# Altium footprint library Module.PcbLib: 47 footprints (part 3 of 4)
Each footprint in its own frame and in the unit in brackets; x right, y up, seen from the top. Pads: shape width x height; smd on the part's side, far side on the other; paste and mask are expansions set on the pad; w line width, h text height; cw(c..) or ccw(c..) is an arc to the next point about the centre after c.
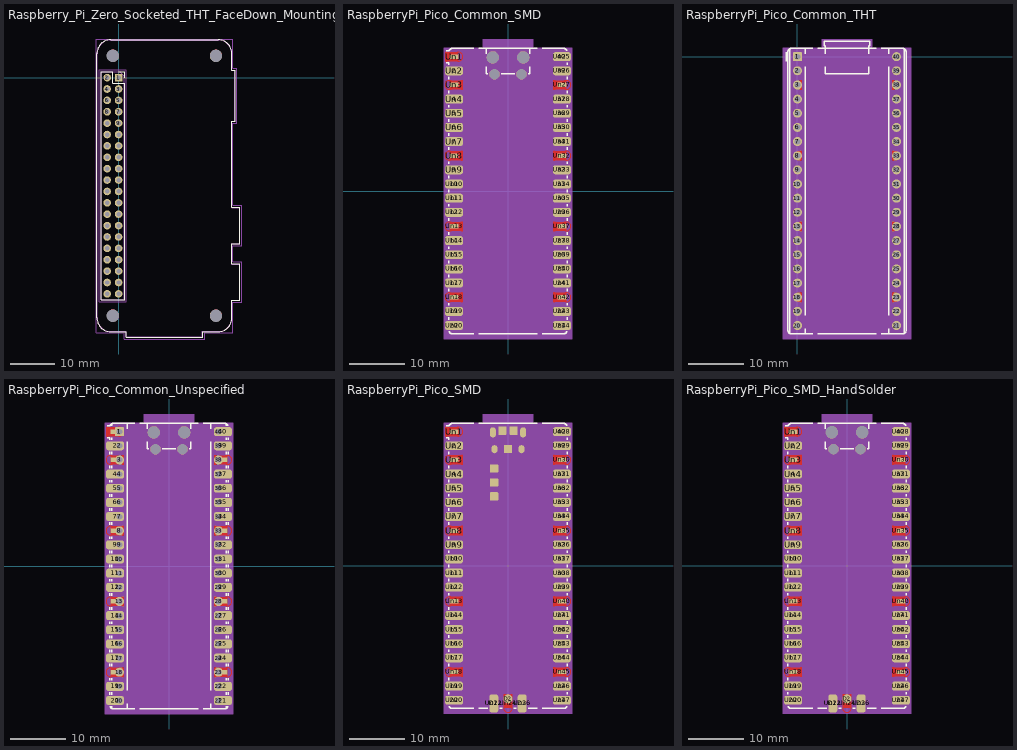
[diagram p2: the footprints below, top view; thin cyan lines are the x and y axes]

## Raspberry_Pi_Zero_Socketed_THT_FaceDown_MountingHoles [mm]
pads (44):
  rect 1.7x1.7 hole 1: 1(0,0)
  rrect100% 1.7x1.7 hole 1: 2(-2.54,0) 3(0,-2.54) 4(-2.54,-2.54) 5(0,-5.08) 6(-2.54,-5.08) 7(0,-7.62) 8(-2.54,-7.62) 9(0,-10.16) 10(-2.54,-10.16) 11(0,-12.7) 12(-2.54,-12.7) 13(0,-15.24) 14(-2.54,-15.24) 15(0,-17.78) 16(-2.54,-17.78) 17(0,-20.32) 18(-2.54,-20.32) 19(0,-22.86) 20(-2.54,-22.86) 21(0,-25.4) 22(-2.54,-25.4) 23(0,-27.94) 24(-2.54,-27.94) 25(0,-30.48) 26(-2.54,-30.48) 27(0,-33.02) 28(-2.54,-33.02) 29(0,-35.56) 30(-2.54,-35.56) 31(0,-38.1) 32(-2.54,-38.1) 33(0,-40.64) 34(-2.54,-40.64) 35(0,-43.18) 36(-2.54,-43.18) 37(0,-45.72) 38(-2.54,-45.72) 39(0,-48.26) 40(-2.54,-48.26)
  round 2.75 hole 2.75: Un1(-1.27,4.87) Un2(-1.27,-53.13) Un3(21.73,4.87) Un4(21.73,-53.13)
F.SilkS:
  lines w0.254: 0,1.33 1.33,1.33 1.33,0 ; -4.83,-53.63 ccw(c-1.77,-53.63) -1.77,-56.69 1.67,-56.69 1.67,-57.89 18.79,-57.89 18.79,-56.69 22.23,-56.69 ccw(c22.23,-53.63) 25.29,-53.63 25.29,-49.69 27.09,-49.69 27.09,-41.57 25.29,-41.57 25.29,-37.09 27.09,-37.09 27.09,-28.97 25.29,-28.97 25.29,-9.74 25.99,-9.74 25.99,1.68 25.29,1.68 25.29,5.37 ccw(c22.23,5.37) 22.23,8.43 -1.77,8.43 ccw(c-1.77,5.37) -4.83,5.37 -4.83,-53.63 ; -3.87,-49.59 1.33,-49.59 1.33,-1.27 -1.27,-1.27 -1.27,1.33 -3.87,1.33 -3.87,-49.59
Top Assembly:
  lines w0.254: -4.77,-53.63 ccw(c-1.77,-53.63) -1.77,-56.63 1.73,-56.63 1.73,-57.83 18.73,-57.83 18.73,-56.63 22.23,-56.63 ccw(c22.23,-53.63) 25.23,-53.63 25.23,-49.63 27.03,-49.63 27.03,-41.63 25.23,-41.63 25.23,-37.03 27.03,-37.03 27.03,-29.03 25.23,-29.03 25.23,-9.68 25.93,-9.68 25.93,1.62 25.23,1.62 25.23,5.37 ccw(c22.23,5.37) 22.23,8.37 -1.77,8.37 ccw(c-1.77,5.37) -4.77,5.37 -4.77,-53.63 ; -3.81,-49.53 1.27,-49.53 1.27,0.27 0.27,1.27 -3.81,1.27 -3.81,-49.53
  text "'.Designator'" at -0.43,-28.177 h1
Top Courtyard:
  lines w0.254: -5.02,-56.88 1.23,-56.88 1.23,-58.33 19.23,-58.33 19.23,-56.88 25.48,-56.88 25.48,-50.13 27.53,-50.13 27.53,-41.13 25.48,-41.13 25.48,-37.53 27.53,-37.53 27.53,-28.53 25.48,-28.53 25.48,-10.18 26.43,-10.18 26.43,2.12 25.48,2.12 25.48,8.62 -5.02,8.62 -5.02,-56.88 ; -4.34,-50 1.76,-50 1.76,1.8 -4.34,1.8 -4.34,-50
Top Designator:
  text ".Designator" at 3.637,-25.363 h1.52

## RaspberryPi_Pico_Common_SMD [mm]
pads (84):
  rect 1.6x0.8 smd: 1(-9.69,24.13) 3(-9.69,19.05) 8(-9.69,6.35) 13(-9.69,-6.35) 18(-9.69,-19.05) 23(9.69,-19.05) 28(9.69,-6.35) 33(9.69,6.35) 38(9.69,19.05)
  rrect50% 3.2x1.6 smd: 2(-9.69,21.59) 4(-9.69,16.51) 5(-9.69,13.97) 6(-9.69,11.43) 7(-9.69,8.89) 9(-9.69,3.81) 10(-9.69,1.27) 11(-9.69,-1.27) 12(-9.69,-3.81) 14(-9.69,-8.89) 15(-9.69,-11.43) 16(-9.69,-13.97) 17(-9.69,-16.51) 19(-9.69,-21.59) 20(-9.69,-24.13) 21(9.69,-24.13) 22(9.69,-21.59) 24(9.69,-16.51) 25(9.69,-13.97) 26(9.69,-11.43) 27(9.69,-8.89) 29(9.69,-3.81) 30(9.69,-1.27) 31(9.69,1.27) 32(9.69,3.81) 34(9.69,8.89) 35(9.69,11.43) 36(9.69,13.97) 37(9.69,16.51) 39(9.69,21.59) 40(9.69,24.13)
  rect 3.8x2.2 on Top Paste: Un1(-9.69,24.13) Un2(-9.69,21.59) Un3(-9.69,19.05) Un4(-9.69,16.51) Un5(-9.69,13.97) Un6(-9.69,11.43) Un7(-9.69,8.89) Un8(-9.69,6.35) Un9(-9.69,3.81) Un10(-9.69,1.27) Un11(-9.69,-1.27) Un12(-9.69,-3.81) Un13(-9.69,-6.35) Un14(-9.69,-8.89) Un15(-9.69,-11.43) Un16(-9.69,-13.97) Un17(-9.69,-16.51) Un18(-9.69,-19.05) Un19(-9.69,-21.59) Un20(-9.69,-24.13) Un25(9.69,24.13) Un26(9.69,21.59) Un27(9.69,19.05) Un28(9.69,16.51) Un29(9.69,13.97) Un30(9.69,11.43) Un31(9.69,8.89) Un32(9.69,6.35) Un33(9.69,3.81) Un34(9.69,1.27) Un35(9.69,-1.27) Un36(9.69,-3.81) Un37(9.69,-6.35) Un38(9.69,-8.89) Un39(9.69,-11.43) Un40(9.69,-13.97) Un41(9.69,-16.51) Un42(9.69,-19.05) Un43(9.69,-21.59) Un44(9.69,-24.13)
  round 2.2 hole 2.2: Un21(-2.725,24) Un24(2.725,24)
  round 1.85 hole 1.85: Un22(-2.425,20.97) Un23(2.425,20.97)
F.Cu:
  circle w0: c8.29,18.45 r0.2
  circle w0: c8.29,19.65 r0.2
  circle w0: c10.49,19.05 r0.8
  circle w0: c8.29,5.75 r0.2
  circle w0: c8.29,6.95 r0.2
  circle w0: c10.49,6.35 r0.8
  circle w0: c8.29,-6.95 r0.2
  circle w0: c8.29,-5.75 r0.2
  circle w0: c10.49,-6.35 r0.8
  circle w0: c8.29,-19.65 r0.2
  circle w0: c8.29,-18.45 r0.2
  circle w0: c10.49,-19.05 r0.8
  circle w0: c-8.29,-19.65 r0.2
  circle w0: c-8.29,-18.45 r0.2
  circle w0: c-10.49,-19.05 r0.8
  circle w0: c-8.29,-6.95 r0.2
  circle w0: c-8.29,-5.75 r0.2
  circle w0: c-10.49,-6.35 r0.8
  circle w0: c-8.29,5.75 r0.2
  circle w0: c-8.29,6.95 r0.2
  circle w0: c-10.49,6.35 r0.8
  circle w0: c-8.29,18.45 r0.2
  circle w0: c-8.29,19.65 r0.2
  circle w0: c-10.49,19.05 r0.8
  circle w0: c-11.09,23.53 r0.2
  circle w0: c-11.09,24.73 r0.2
  circle w0: c-8.89,24.13 r0.8
  region: 10.49,18.25 8.29,18.25 8.09,18.45 8.09,19.65 8.29,19.85 10.49,19.85
  region: 10.49,5.55 8.29,5.55 8.09,5.75 8.09,6.95 8.29,7.15 10.49,7.15
  region: 10.49,-7.15 8.29,-7.15 8.09,-6.95 8.09,-5.75 8.29,-5.55 10.49,-5.55
  region: 10.49,-19.85 8.29,-19.85 8.09,-19.65 8.09,-18.45 8.29,-18.25 10.49,-18.25
  region: -8.09,-18.45 -8.09,-19.65 -8.29,-19.85 -10.49,-19.85 -10.49,-18.25 -8.29,-18.25
  region: -8.09,-5.75 -8.09,-6.95 -8.29,-7.15 -10.49,-7.15 -10.49,-5.55 -8.29,-5.55
  region: -8.09,6.95 -8.09,5.75 -8.29,5.55 -10.49,5.55 -10.49,7.15 -8.29,7.15
  region: -8.09,19.65 -8.09,18.45 -8.29,18.25 -10.49,18.25 -10.49,19.85 -8.29,19.85
  region: -8.89,23.33 -11.09,23.33 -11.29,23.53 -11.29,24.73 -11.09,24.93 -8.89,24.93
F.SilkS:
  lines w0.254: -11.09,23.07 -10.61,23.07 -10.61,22.65 ; -11.09,25.19 -10.58,25.19 cw(c-10,25) -10,25.61 -7.51,25.61 -6.162,25.61 ; -10.61,-23.07 -10.61,-22.65 ; -10.61,-20.53 -10.61,-20.11 ; -10.61,-17.99 -10.61,-17.57 ; -10.61,-15.45 -10.61,-15.03 ; -10.61,-12.91 -10.61,-12.49 ; -10.61,-10.37 -10.61,-9.95 ; -10.61,-7.83 -10.61,-7.41 ; -10.61,-5.29 -10.61,-4.87 ; -10.61,-2.75 -10.61,-2.33 ; -10.61,-0.21 -10.61,0.21 ; -10.61,2.33 -10.61,2.75 ; -10.61,4.87 -10.61,5.29 ; -10.61,7.41 -10.61,7.83 ; -10.61,9.95 -10.61,10.37 ; -10.61,12.49 -10.61,12.91 ; -10.61,15.03 -10.61,15.45 ; -10.61,17.57 -10.61,17.99 ; -10.61,20.11 -10.61,20.53 ; -10.58,-25.19 ccw(c-10,-25) -10,-25.61 -6.162,-25.61 ; -5.238,-25.61 -3.6,-25.61 3.6,-25.61 5.238,-25.61 ; -5.238,25.61 -4.235,25.61 4.235,25.61 5.238,25.61 ; -3.9,22.306 -3.9,21.09 -3.604,21.09 ; -3.9,24.694 -3.9,25.61 ; -1.246,21.09 1.246,21.09 ; 3.604,21.09 3.9,21.09 3.9,22.306 ; 3.9,24.694 3.9,25.61 ; 6.162,-25.61 10,-25.61 ccw(c10,-25) 10.58,-25.19 ; 6.162,25.61 7.51,25.61 10,25.61 cw(c10,25) 10.58,25.19 ; 10.61,-23.07 10.61,-22.65 ; 10.61,-20.53 10.61,-20.11 ; 10.61,-17.99 10.61,-17.57 ; 10.61,-15.45 10.61,-15.03 ; 10.61,-12.91 10.61,-12.49 ; 10.61,-10.37 10.61,-9.95 ; 10.61,-7.83 10.61,-7.41 ; 10.61,-5.29 10.61,-4.87 ; 10.61,-2.75 10.61,-2.33 ; 10.61,-0.21 10.61,0.21 ; 10.61,2.33 10.61,2.75 ; 10.61,4.87 10.61,5.29 ; 10.61,7.41 10.61,7.83 ; 10.61,9.95 10.61,10.37 ; 10.61,12.49 10.61,12.91 ; 10.61,15.03 10.61,15.45 ; 10.61,17.57 10.61,17.99 ; 10.61,20.11 10.61,20.53 ; 10.61,22.65 10.61,23.07
F.Mask:
  circle w0: c8.29,18.45 r0.2
  circle w0: c8.29,19.65 r0.2
  circle w0: c10.49,19.05 r0.8
  circle w0: c8.29,5.75 r0.2
  circle w0: c8.29,6.95 r0.2
  circle w0: c10.49,6.35 r0.8
  circle w0: c8.29,-6.95 r0.2
  circle w0: c8.29,-5.75 r0.2
  circle w0: c10.49,-6.35 r0.8
  circle w0: c8.29,-19.65 r0.2
  circle w0: c8.29,-18.45 r0.2
  circle w0: c10.49,-19.05 r0.8
  circle w0: c-8.29,-19.65 r0.2
  circle w0: c-8.29,-18.45 r0.2
  circle w0: c-10.49,-19.05 r0.8
  circle w0: c-8.29,-6.95 r0.2
  circle w0: c-8.29,-5.75 r0.2
  circle w0: c-10.49,-6.35 r0.8
  circle w0: c-8.29,5.75 r0.2
  circle w0: c-8.29,6.95 r0.2
  circle w0: c-10.49,6.35 r0.8
  circle w0: c-8.29,18.45 r0.2
  circle w0: c-8.29,19.65 r0.2
  circle w0: c-10.49,19.05 r0.8
  circle w0: c-11.09,23.53 r0.2
  circle w0: c-11.09,24.73 r0.2
  circle w0: c-8.89,24.13 r0.8
  region: 10.49,18.25 8.29,18.25 8.09,18.45 8.09,19.65 8.29,19.85 10.49,19.85
  region: 10.49,5.55 8.29,5.55 8.09,5.75 8.09,6.95 8.29,7.15 10.49,7.15
  region: 10.49,-7.15 8.29,-7.15 8.09,-6.95 8.09,-5.75 8.29,-5.55 10.49,-5.55
  region: 10.49,-19.85 8.29,-19.85 8.09,-19.65 8.09,-18.45 8.29,-18.25 10.49,-18.25
  region: -8.09,-18.45 -8.09,-19.65 -8.29,-19.85 -10.49,-19.85 -10.49,-18.25 -8.29,-18.25
  region: -8.09,-5.75 -8.09,-6.95 -8.29,-7.15 -10.49,-7.15 -10.49,-5.55 -8.29,-5.55
  region: -8.09,6.95 -8.09,5.75 -8.29,5.55 -10.49,5.55 -10.49,7.15 -8.29,7.15
  region: -8.09,19.65 -8.09,18.45 -8.29,18.25 -10.49,18.25 -10.49,19.85 -8.29,19.85
  region: -8.89,23.33 -11.09,23.33 -11.29,23.53 -11.29,24.73 -11.09,24.93 -8.89,24.93
Top Assembly:
  region: 4,26.2 3.79,26.2 3.79,21.2 -3.79,21.2 -3.79,26.2 -4,26.2 -4,26.8 4,26.8
  lines w0.254: -10.5,-25 ccw(c-10,-25) -10,-25.5 10,-25.5 ccw(c10,-25) 10.5,-25 10.5,25 ccw(c10,25) 10,25.5 -9.5,25.5 -10.5,24.5 -10.5,-25 ; -6.5,20.3 -4.9,20.3 -4.9,21.1 -6.5,21.1 -6.5,20.3 ; -6.2,20.3 -5.2,20.3 -5.2,21.1 -6.2,21.1 -6.2,20.3 ; -5.1,11.375 -1.9,11.375 -1.9,15.625 -5.1,15.625 -5.1,11.375 ; -4.625,12.925 ccw(c-3.5,12.925) -2.375,12.925 -2.375,14.075 ccw(c-3.5,14.075) -4.625,14.075 -4.625,12.925
  text "'.Designator'" at 0.84,-4.047 h1
Top Courtyard:
  region: 4.5,25.75 11.54,25.75 11.54,-26.55 -11.54,-26.55 -11.54,25.75 -4.5,25.75 -4.5,27.3 4.5,27.3
Top Designator:
  text ".Designator" at -7.618,5.835 h1.52
Dwgs.User:
  circle w0.254: c5.7,-23.5 r1.05
  circle w0.254: c5.7,23.5 r1.05
  circle w0.254: c-5.7,-23.5 r1.05
  circle w0.254: c-5.7,23.5 r1.05
  region: 10.5,0.47 2.12,0.47 1.9,0.7 1.9,1.6 2.37,2.07 5.65,2.07 5.9,2.3 5.9,3.2 5.2,3.9 4.55,3.9 4.3,4.15 4.3,11.05 4.85,11.6 7.15,11.6 7.78,12.23 10.5,12.23
Cmts.User:
  text "Exposed" at -0.922,24.345 h0.33
  text "Copper" at -0.812,23.71 h0.33
  text "Exposed Copper Keep Out" at 0.087,-5.972 h0.33
  text "Out" at -0.41,20.466 h0.33
  text "Keep" at 0.445,4.728 h0.33
  text "AGND Plane" at 5.405,5.582 h0.5
  text "Keep" at -0.555,21.045 h0.33
  text "Copper" at 0.188,5.363 h0.33
  text "Exposed Copper Keep Out" at -2.228,11.213 h0.33
  text "Keep Out" at -3.247,35.378 h1
  text "Exposed Copper Keep Out" at -3.037,-25.037 h0.33
  text "Out" at 0.59,4.148 h0.33
  text "Possible Antenna" at -5.83,-20.359 h1
  text "USB Cable" at -3.604,38.085 h1
  text "Keep Out" at -3.247,-22.407 h1

## RaspberryPi_Pico_Common_THT [mm]
pads (40):
  rrect12% 1.6x1.6 hole 1: 1(0,0)
  round 1.6 hole 1: 2(0,-2.54) 3(0,-5.08) 4(0,-7.62) 5(0,-10.16) 6(0,-12.7) 7(0,-15.24) 8(0,-17.78) 9(0,-20.32) 10(0,-22.86) 11(0,-25.4) 12(0,-27.94) 13(0,-30.48) 14(0,-33.02) 15(0,-35.56) 16(0,-38.1) 17(0,-40.64) 18(0,-43.18) 19(0,-45.72) 20(0,-48.26) 21(17.78,-48.26) 22(17.78,-45.72) 23(17.78,-43.18) 24(17.78,-40.64) 25(17.78,-38.1) 26(17.78,-35.56) 27(17.78,-33.02) 28(17.78,-30.48) 29(17.78,-27.94) 30(17.78,-25.4) 31(17.78,-22.86) 32(17.78,-20.32) 33(17.78,-17.78) 34(17.78,-15.24) 35(17.78,-12.7) 36(17.78,-10.16) 37(17.78,-7.62) 38(17.78,-5.08) 39(17.78,-2.54) 40(17.78,0)
F.Cu:
  circle w0: c17.18,-4.48 r0.2
  circle w0: c17.18,-5.68 r0.2
  circle w0: c17.18,-17.18 r0.2
  circle w0: c17.18,-18.38 r0.2
  circle w0: c17.18,-29.88 r0.2
  circle w0: c17.18,-31.08 r0.2
  circle w0: c17.18,-42.58 r0.2
  circle w0: c17.18,-43.78 r0.2
  circle w0: c0.6,-42.58 r0.2
  circle w0: c0.6,-43.78 r0.2
  circle w0: c0.6,-29.88 r0.2
  circle w0: c0.6,-31.08 r0.2
  circle w0: c0.6,-17.18 r0.2
  circle w0: c0.6,-18.38 r0.2
  circle w0: c0.6,-4.48 r0.2
  circle w0: c0.6,-5.68 r0.2
  region: 17.78,-5.88 17.18,-5.88 16.98,-5.68 16.98,-4.48 17.18,-4.28 17.78,-4.28
  region: 17.78,-18.58 17.18,-18.58 16.98,-18.38 16.98,-17.18 17.18,-16.98 17.78,-16.98
  region: 17.78,-31.28 17.18,-31.28 16.98,-31.08 16.98,-29.88 17.18,-29.68 17.78,-29.68
  region: 17.78,-43.98 17.18,-43.98 16.98,-43.78 16.98,-42.58 17.18,-42.38 17.78,-42.38
  region: 0.8,-42.58 0.8,-43.78 0.6,-43.98 0,-43.98 0,-42.38 0.6,-42.38
  region: 0.8,-29.88 0.8,-31.08 0.6,-31.28 0,-31.28 0,-29.68 0.6,-29.68
  region: 0.8,-17.18 0.8,-18.38 0.6,-18.58 0,-18.58 0,-16.98 0.6,-16.98
  region: 0.8,-4.48 0.8,-5.68 0.6,-5.88 0,-5.88 0,-4.28 0.6,-4.28
B.Cu:
  circle w0: c17.18,-4.48 r0.2
  circle w0: c17.18,-5.68 r0.2
  circle w0: c17.18,-17.18 r0.2
  circle w0: c17.18,-18.38 r0.2
  circle w0: c17.18,-29.88 r0.2
  circle w0: c17.18,-31.08 r0.2
  circle w0: c17.18,-42.58 r0.2
  circle w0: c17.18,-43.78 r0.2
  circle w0: c0.6,-42.58 r0.2
  circle w0: c0.6,-43.78 r0.2
  circle w0: c0.6,-29.88 r0.2
  circle w0: c0.6,-31.08 r0.2
  circle w0: c0.6,-17.18 r0.2
  circle w0: c0.6,-18.38 r0.2
  circle w0: c0.6,-4.48 r0.2
  circle w0: c0.6,-5.68 r0.2
  region: 17.78,-5.88 17.18,-5.88 16.98,-5.68 16.98,-4.48 17.18,-4.28 17.78,-4.28
  region: 17.78,-18.58 17.18,-18.58 16.98,-18.38 16.98,-17.18 17.18,-16.98 17.78,-16.98
  region: 17.78,-31.28 17.18,-31.28 16.98,-31.08 16.98,-29.88 17.18,-29.68 17.78,-29.68
  region: 17.78,-43.98 17.18,-43.98 16.98,-43.78 16.98,-42.58 17.18,-42.38 17.78,-42.38
  region: 0.8,-42.58 0.8,-43.78 0.6,-43.98 0,-43.98 0,-42.38 0.6,-42.38
  region: 0.8,-29.88 0.8,-31.08 0.6,-31.28 0,-31.28 0,-29.68 0.6,-29.68
  region: 0.8,-17.18 0.8,-18.38 0.6,-18.58 0,-18.58 0,-16.98 0.6,-16.98
  region: 0.8,-4.48 0.8,-5.68 0.6,-5.88 0,-5.88 0,-4.28 0.6,-4.28
F.SilkS:
  lines w0.254: -2.04,-0.8 -2.04,0.8 ; -1.38,-49.677 -1.38,1.417 ; 1.38,-49.74 1.38,-48.826 ; 1.38,-46.434 1.38,-1.826 ; 1.38,0.566 1.38,1.48 ; 2.728,-49.74 -1.11,-49.74 cw(c-1.11,-49.13) -1.72,-49.13 -1.72,0.87 cw(c-1.11,0.87) -1.11,1.48 1.38,1.48 ; 2.728,1.48 1.38,1.48 ; 3.652,-49.74 5.29,-49.74 12.49,-49.74 14.128,-49.74 ; 3.652,1.48 4.655,1.48 13.125,1.48 14.128,1.48 ; 4.99,-1.824 4.99,-3.04 12.79,-3.04 12.79,-1.824 ; 4.99,0.564 4.99,1.96 4.78,1.96 4.78,2.78 13,2.78 13,1.96 12.79,1.96 12.79,0.564 ; 15.052,-49.74 18.89,-49.74 ccw(c18.89,-49.13) 19.5,-49.13 19.5,0.87 ccw(c18.89,0.87) 18.89,1.48 16.4,1.48 ; 15.052,1.48 16.4,1.48 ; 16.4,-49.74 16.4,-48.826 ; 16.4,-46.434 16.4,-1.826 ; 16.4,0.566 16.4,1.48 ; 19.16,-49.677 19.16,1.417
F.Mask:
  circle w0: c17.18,-4.48 r0.2
  circle w0: c17.18,-5.68 r0.2
  circle w0: c17.18,-17.18 r0.2
  circle w0: c17.18,-18.38 r0.2
  circle w0: c17.18,-29.88 r0.2
  circle w0: c17.18,-31.08 r0.2
  circle w0: c17.18,-42.58 r0.2
  circle w0: c17.18,-43.78 r0.2
  circle w0: c0.6,-42.58 r0.2
  circle w0: c0.6,-43.78 r0.2
  circle w0: c0.6,-29.88 r0.2
  circle w0: c0.6,-31.08 r0.2
  circle w0: c0.6,-17.18 r0.2
  circle w0: c0.6,-18.38 r0.2
  circle w0: c0.6,-4.48 r0.2
  circle w0: c0.6,-5.68 r0.2
  region: 17.78,-5.88 17.18,-5.88 16.98,-5.68 16.98,-4.48 17.18,-4.28 17.78,-4.28
  region: 17.78,-18.58 17.18,-18.58 16.98,-18.38 16.98,-17.18 17.18,-16.98 17.78,-16.98
  region: 17.78,-31.28 17.18,-31.28 16.98,-31.08 16.98,-29.88 17.18,-29.68 17.78,-29.68
  region: 17.78,-43.98 17.18,-43.98 16.98,-43.78 16.98,-42.58 17.18,-42.38 17.78,-42.38
  region: 0.8,-42.58 0.8,-43.78 0.6,-43.98 0,-43.98 0,-42.38 0.6,-42.38
  region: 0.8,-29.88 0.8,-31.08 0.6,-31.28 0,-31.28 0,-29.68 0.6,-29.68
  region: 0.8,-17.18 0.8,-18.38 0.6,-18.58 0,-18.58 0,-16.98 0.6,-16.98
  region: 0.8,-4.48 0.8,-5.68 0.6,-5.88 0,-5.88 0,-4.28 0.6,-4.28
B.Mask:
  circle w0: c17.18,-4.48 r0.2
  circle w0: c17.18,-5.68 r0.2
  circle w0: c17.18,-17.18 r0.2
  circle w0: c17.18,-18.38 r0.2
  circle w0: c17.18,-29.88 r0.2
  circle w0: c17.18,-31.08 r0.2
  circle w0: c17.18,-42.58 r0.2
  circle w0: c17.18,-43.78 r0.2
  circle w0: c0.6,-42.58 r0.2
  circle w0: c0.6,-43.78 r0.2
  circle w0: c0.6,-29.88 r0.2
  circle w0: c0.6,-31.08 r0.2
  circle w0: c0.6,-17.18 r0.2
  circle w0: c0.6,-18.38 r0.2
  circle w0: c0.6,-4.48 r0.2
  circle w0: c0.6,-5.68 r0.2
  region: 17.78,-5.88 17.18,-5.88 16.98,-5.68 16.98,-4.48 17.18,-4.28 17.78,-4.28
  region: 17.78,-18.58 17.18,-18.58 16.98,-18.38 16.98,-17.18 17.18,-16.98 17.78,-16.98
  region: 17.78,-31.28 17.18,-31.28 16.98,-31.08 16.98,-29.88 17.18,-29.68 17.78,-29.68
  region: 17.78,-43.98 17.18,-43.98 16.98,-43.78 16.98,-42.58 17.18,-42.38 17.78,-42.38
  region: 0.8,-42.58 0.8,-43.78 0.6,-43.98 0,-43.98 0,-42.38 0.6,-42.38
  region: 0.8,-29.88 0.8,-31.08 0.6,-31.28 0,-31.28 0,-29.68 0.6,-29.68
  region: 0.8,-17.18 0.8,-18.38 0.6,-18.58 0,-18.58 0,-16.98 0.6,-16.98
  region: 0.8,-4.48 0.8,-5.68 0.6,-5.88 0,-5.88 0,-4.28 0.6,-4.28
Top Assembly:
  region: 12.89,2.07 12.68,2.07 12.68,-2.93 5.1,-2.93 5.1,2.07 4.89,2.07 4.89,2.67 12.89,2.67
  lines w0.254: -1.61,-49.13 ccw(c-1.11,-49.13) -1.11,-49.63 18.89,-49.63 ccw(c18.89,-49.13) 19.39,-49.13 19.39,0.87 ccw(c18.89,0.87) 18.89,1.37 -0.61,1.37 -1.61,0.37 -1.61,-49.13 ; 2.39,-3.83 3.99,-3.83 3.99,-3.03 2.39,-3.03 2.39,-3.83 ; 2.69,-3.83 3.69,-3.83 3.69,-3.03 2.69,-3.03 2.69,-3.83 ; 3.79,-12.755 6.99,-12.755 6.99,-8.505 3.79,-8.505 3.79,-12.755 ; 4.265,-11.205 ccw(c5.39,-11.205) 6.515,-11.205 6.515,-10.055 ccw(c5.39,-10.055) 4.265,-10.055 4.265,-11.205
  text "'.Designator'" at 9.73,-28.177 h1
Top Courtyard:
  region: 13.39,1.62 20.43,1.62 20.43,-50.68 -2.65,-50.68 -2.65,1.62 4.39,1.62 4.39,3.17 13.39,3.17
Top Designator:
  text ".Designator" at 1.272,-18.93 h1.52
Dwgs.User:
  circle w0.254: c14.59,-47.63 r1.05
  circle w0.254: c14.59,-0.63 r1.05
  circle w0.254: c3.19,-47.63 r1.05
  circle w0.254: c3.19,-0.63 r1.05
Cmts.User:
  text "Possible Antenna" at 3.06,-44.489 h1
  text "USB Cable" at 5.286,12.685 h1
  text "Keep Out" at 5.643,-46.537 h1

## RaspberryPi_Pico_Common_Unspecified [mm]
pads (84):
  rect 1.6x0.8 smd: 1(-9.69,24.13) 3(-9.69,19.05) 8(-9.69,6.35) 13(-9.69,-6.35) 18(-9.69,-19.05) 23(9.69,-19.05) 28(9.69,-6.35) 33(9.69,6.35) 38(9.69,19.05)
  rrect12% 1.6x1.6 hole 1: 1(-8.89,24.13)
  rrect50% 3.2x1.6 smd: 2(-9.69,21.59) 4(-9.69,16.51) 5(-9.69,13.97) 6(-9.69,11.43) 7(-9.69,8.89) 9(-9.69,3.81) 10(-9.69,1.27) 11(-9.69,-1.27) 12(-9.69,-3.81) 14(-9.69,-8.89) 15(-9.69,-11.43) 16(-9.69,-13.97) 17(-9.69,-16.51) 19(-9.69,-21.59) 20(-9.69,-24.13) 21(9.69,-24.13) 22(9.69,-21.59) 24(9.69,-16.51) 25(9.69,-13.97) 26(9.69,-11.43) 27(9.69,-8.89) 29(9.69,-3.81) 30(9.69,-1.27) 31(9.69,1.27) 32(9.69,3.81) 34(9.69,8.89) 35(9.69,11.43) 36(9.69,13.97) 37(9.69,16.51) 39(9.69,21.59) 40(9.69,24.13)
  round 1.6 hole 1: 2(-8.89,21.59) 3(-8.89,19.05) 4(-8.89,16.51) 5(-8.89,13.97) 6(-8.89,11.43) 7(-8.89,8.89) 8(-8.89,6.35) 9(-8.89,3.81) 10(-8.89,1.27) 11(-8.89,-1.27) 12(-8.89,-3.81) 13(-8.89,-6.35) 14(-8.89,-8.89) 15(-8.89,-11.43) 16(-8.89,-13.97) 17(-8.89,-16.51) 18(-8.89,-19.05) 19(-8.89,-21.59) 20(-8.89,-24.13) 21(8.89,-24.13) 22(8.89,-21.59) 23(8.89,-19.05) 24(8.89,-16.51) 25(8.89,-13.97) 26(8.89,-11.43) 27(8.89,-8.89) 28(8.89,-6.35) 29(8.89,-3.81) 30(8.89,-1.27) 31(8.89,1.27) 32(8.89,3.81) 33(8.89,6.35) 34(8.89,8.89) 35(8.89,11.43) 36(8.89,13.97) 37(8.89,16.51) 38(8.89,19.05) 39(8.89,21.59) 40(8.89,24.13)
  round 2.2 hole 2.2: Un1(-2.725,24) Un4(2.725,24)
  round 1.85 hole 1.85: Un2(-2.425,20.97) Un3(2.425,20.97)
F.Cu:
  circle w0: c8.29,18.45 r0.2
  circle w0: c8.29,19.65 r0.2
  circle w0: c10.49,19.05 r0.8
  circle w0: c8.29,19.65 r0.2
  circle w0: c8.29,18.45 r0.2
  circle w0: c8.29,5.75 r0.2
  circle w0: c8.29,6.95 r0.2
  circle w0: c10.49,6.35 r0.8
  circle w0: c8.29,6.95 r0.2
  circle w0: c8.29,5.75 r0.2
  circle w0: c8.29,-6.95 r0.2
  circle w0: c8.29,-5.75 r0.2
  circle w0: c10.49,-6.35 r0.8
  circle w0: c8.29,-5.75 r0.2
  circle w0: c8.29,-6.95 r0.2
  circle w0: c8.29,-19.65 r0.2
  circle w0: c8.29,-18.45 r0.2
  circle w0: c10.49,-19.05 r0.8
  circle w0: c8.29,-18.45 r0.2
  circle w0: c8.29,-19.65 r0.2
  circle w0: c-8.29,-18.45 r0.2
  circle w0: c-8.29,-19.65 r0.2
  circle w0: c-8.29,-19.65 r0.2
  circle w0: c-8.29,-18.45 r0.2
  circle w0: c-10.49,-19.05 r0.8
  circle w0: c-8.29,-5.75 r0.2
  circle w0: c-8.29,-6.95 r0.2
  circle w0: c-8.29,-6.95 r0.2
  circle w0: c-8.29,-5.75 r0.2
  circle w0: c-10.49,-6.35 r0.8
  circle w0: c-8.29,6.95 r0.2
  circle w0: c-8.29,5.75 r0.2
  circle w0: c-8.29,5.75 r0.2
  circle w0: c-8.29,6.95 r0.2
  circle w0: c-10.49,6.35 r0.8
  circle w0: c-8.29,19.65 r0.2
  circle w0: c-8.29,18.45 r0.2
  circle w0: c-8.29,18.45 r0.2
  circle w0: c-8.29,19.65 r0.2
  circle w0: c-10.49,19.05 r0.8
  circle w0: c-11.09,23.53 r0.2
  circle w0: c-11.09,24.73 r0.2
  circle w0: c-8.89,24.13 r0.8
  region: 10.49,18.25 8.29,18.25 8.09,18.45 8.09,19.65 8.29,19.85 10.49,19.85
  region: 8.89,18.25 8.29,18.25 8.09,18.45 8.09,19.65 8.29,19.85 8.89,19.85
  region: 10.49,5.55 8.29,5.55 8.09,5.75 8.09,6.95 8.29,7.15 10.49,7.15
  region: 8.89,5.55 8.29,5.55 8.09,5.75 8.09,6.95 8.29,7.15 8.89,7.15
  region: 10.49,-7.15 8.29,-7.15 8.09,-6.95 8.09,-5.75 8.29,-5.55 10.49,-5.55
  region: 8.89,-7.15 8.29,-7.15 8.09,-6.95 8.09,-5.75 8.29,-5.55 8.89,-5.55
  region: 10.49,-19.85 8.29,-19.85 8.09,-19.65 8.09,-18.45 8.29,-18.25 10.49,-18.25
  region: 8.89,-19.85 8.29,-19.85 8.09,-19.65 8.09,-18.45 8.29,-18.25 8.89,-18.25
  region: -8.09,-18.45 -8.09,-19.65 -8.29,-19.85 -8.89,-19.85 -8.89,-18.25 -8.29,-18.25
  region: -8.09,-18.45 -8.09,-19.65 -8.29,-19.85 -10.49,-19.85 -10.49,-18.25 -8.29,-18.25
  region: -8.09,-5.75 -8.09,-6.95 -8.29,-7.15 -8.89,-7.15 -8.89,-5.55 -8.29,-5.55
  region: -8.09,-5.75 -8.09,-6.95 -8.29,-7.15 -10.49,-7.15 -10.49,-5.55 -8.29,-5.55
  region: -8.09,6.95 -8.09,5.75 -8.29,5.55 -8.89,5.55 -8.89,7.15 -8.29,7.15
  region: -8.09,6.95 -8.09,5.75 -8.29,5.55 -10.49,5.55 -10.49,7.15 -8.29,7.15
  region: -8.09,19.65 -8.09,18.45 -8.29,18.25 -8.89,18.25 -8.89,19.85 -8.29,19.85
  region: -8.09,19.65 -8.09,18.45 -8.29,18.25 -10.49,18.25 -10.49,19.85 -8.29,19.85
  region: -8.89,23.33 -11.09,23.33 -11.29,23.53 -11.29,24.73 -11.09,24.93 -8.89,24.93
B.Cu:
  circle w0: c8.29,19.65 r0.2
  circle w0: c8.29,18.45 r0.2
  circle w0: c8.29,6.95 r0.2
  circle w0: c8.29,5.75 r0.2
  circle w0: c8.29,-5.75 r0.2
  circle w0: c8.29,-6.95 r0.2
  circle w0: c8.29,-18.45 r0.2
  circle w0: c8.29,-19.65 r0.2
  circle w0: c-8.29,-18.45 r0.2
  circle w0: c-8.29,-19.65 r0.2
  circle w0: c-8.29,-5.75 r0.2
  circle w0: c-8.29,-6.95 r0.2
  circle w0: c-8.29,6.95 r0.2
  circle w0: c-8.29,5.75 r0.2
  circle w0: c-8.29,19.65 r0.2
  circle w0: c-8.29,18.45 r0.2
  region: 8.89,18.25 8.29,18.25 8.09,18.45 8.09,19.65 8.29,19.85 8.89,19.85
  region: 8.89,5.55 8.29,5.55 8.09,5.75 8.09,6.95 8.29,7.15 8.89,7.15
  region: 8.89,-7.15 8.29,-7.15 8.09,-6.95 8.09,-5.75 8.29,-5.55 8.89,-5.55
  region: 8.89,-19.85 8.29,-19.85 8.09,-19.65 8.09,-18.45 8.29,-18.25 8.89,-18.25
  region: -8.09,-18.45 -8.09,-19.65 -8.29,-19.85 -8.89,-19.85 -8.89,-18.25 -8.29,-18.25
  region: -8.09,-5.75 -8.09,-6.95 -8.29,-7.15 -8.89,-7.15 -8.89,-5.55 -8.29,-5.55
  region: -8.09,6.95 -8.09,5.75 -8.29,5.55 -8.89,5.55 -8.89,7.15 -8.29,7.15
  region: -8.09,19.65 -8.09,18.45 -8.29,18.25 -8.89,18.25 -8.89,19.85 -8.29,19.85
F.SilkS:
  lines w0.254: -11.09,23.07 -10.61,23.07 -10.61,22.65 ; -11.09,25.19 -10.58,25.19 cw(c-10,25) -10,25.61 -7.51,25.61 ; -10.61,-23.07 -10.61,-22.65 ; -10.61,-20.53 -10.61,-20.11 ; -10.61,-17.99 -10.61,-17.57 ; -10.61,-15.45 -10.61,-15.03 ; -10.61,-12.91 -10.61,-12.49 ; -10.61,-10.37 -10.61,-9.95 ; -10.61,-7.83 -10.61,-7.41 ; -10.61,-5.29 -10.61,-4.87 ; -10.61,-2.75 -10.61,-2.33 ; -10.61,-0.21 -10.61,0.21 ; -10.61,2.33 -10.61,2.75 ; -10.61,4.87 -10.61,5.29 ; -10.61,7.41 -10.61,7.83 ; -10.61,9.95 -10.61,10.37 ; -10.61,12.49 -10.61,12.91 ; -10.61,15.03 -10.61,15.45 ; -10.61,17.57 -10.61,17.99 ; -10.61,20.11 -10.61,20.53 ; -10.58,-25.19 ccw(c-10,-25) -10,-25.61 -6.162,-25.61 ; -10.27,-25.547 -10.27,-25.19 ; -10.27,-23.07 -10.27,-22.65 ; -10.27,-20.53 -10.27,-20.11 ; -10.27,-17.99 -10.27,-17.57 ; -10.27,-15.45 -10.27,-15.03 ; -10.27,-12.91 -10.27,-12.49 ; -10.27,-10.37 -10.27,-9.95 ; -10.27,-7.83 -10.27,-7.41 ; -10.27,-5.29 -10.27,-4.87 ; -10.27,-2.75 -10.27,-2.33 ; -10.27,-0.21 -10.27,0.21 ; -10.27,2.33 -10.27,2.75 ; -10.27,4.87 -10.27,5.29 ; -10.27,7.41 -10.27,7.83 ; -10.27,9.95 -10.27,10.37 ; -10.27,12.49 -10.27,12.91 ; -10.27,15.03 -10.27,15.45 ; -10.27,17.57 -10.27,17.99 ; -10.27,20.11 -10.27,20.53 ; -10.27,22.65 -10.27,23.07 ; -10.27,25.19 -10.27,25.547 ; -7.51,-25.61 -7.51,-24.696 ; -7.51,-22.304 -7.51,22.304 ; -7.51,24.696 -7.51,25.61 ; -6.162,25.61 -7.51,25.61 ; -5.238,-25.61 -3.6,-25.61 3.6,-25.61 5.238,-25.61 ; -5.238,25.61 -4.235,25.61 4.235,25.61 5.238,25.61 ; -3.9,22.306 -3.9,21.09 -3.604,21.09 ; -3.9,24.694 -3.9,25.61 ; -1.246,21.09 1.246,21.09 ; 3.604,21.09 3.9,21.09 3.9,22.306 ; 3.9,24.694 3.9,25.61 ; 6.162,-25.61 10,-25.61 ccw(c10,-25) 10.58,-25.19 ; 6.162,25.61 7.51,25.61 ; 7.51,-25.61 7.51,-24.696 ; 7.51,-22.304 7.51,22.304 ; 7.51,24.696 7.51,25.61 ; 10.27,-25.547 10.27,-25.19 ; 10.27,-23.07 10.27,-22.65 ; 10.27,-20.53 10.27,-20.11 ; 10.27,-17.99 10.27,-17.57 ; 10.27,-15.45 10.27,-15.03 ; 10.27,-12.91 10.27,-12.49 ; 10.27,-10.37 10.27,-9.95 ; 10.27,-7.83 10.27,-7.41 ; 10.27,-5.29 10.27,-4.87 ; 10.27,-2.75 10.27,-2.33 ; 10.27,-0.21 10.27,0.21 ; 10.27,2.33 10.27,2.75 ; 10.27,4.87 10.27,5.29 ; 10.27,7.41 10.27,7.83 ; 10.27,9.95 10.27,10.37 ; 10.27,12.49 10.27,12.91 ; 10.27,15.03 10.27,15.45 ; 10.27,17.57 10.27,17.99 ; 10.27,20.11 10.27,20.53 ; 10.27,22.65 10.27,23.07 ; 10.27,25.19 10.27,25.547 ; 10.58,25.19 ccw(c10,25) 10,25.61 7.51,25.61 ; 10.61,-23.07 10.61,-22.65 ; 10.61,-20.53 10.61,-20.11 ; 10.61,-17.99 10.61,-17.57 ; 10.61,-15.45 10.61,-15.03 ; 10.61,-12.91 10.61,-12.49 ; 10.61,-10.37 10.61,-9.95 ; 10.61,-7.83 10.61,-7.41 ; 10.61,-5.29 10.61,-4.87 ; 10.61,-2.75 10.61,-2.33 ; 10.61,-0.21 10.61,0.21 ; 10.61,2.33 10.61,2.75 ; 10.61,4.87 10.61,5.29 ; 10.61,7.41 10.61,7.83 ; 10.61,9.95 10.61,10.37 ; 10.61,12.49 10.61,12.91 ; 10.61,15.03 10.61,15.45 ; 10.61,17.57 10.61,17.99 ; 10.61,20.11 10.61,20.53 ; 10.61,22.65 10.61,23.07
F.Mask:
  circle w0: c8.29,18.45 r0.2
  circle w0: c8.29,19.65 r0.2
  circle w0: c10.49,19.05 r0.8
  circle w0: c8.29,19.65 r0.2
  circle w0: c8.29,18.45 r0.2
  circle w0: c8.29,5.75 r0.2
  circle w0: c8.29,6.95 r0.2
  circle w0: c10.49,6.35 r0.8
  circle w0: c8.29,6.95 r0.2
  circle w0: c8.29,5.75 r0.2
  circle w0: c8.29,-6.95 r0.2
  circle w0: c8.29,-5.75 r0.2
  circle w0: c10.49,-6.35 r0.8
  circle w0: c8.29,-5.75 r0.2
  circle w0: c8.29,-6.95 r0.2
  circle w0: c8.29,-19.65 r0.2
  circle w0: c8.29,-18.45 r0.2
  circle w0: c10.49,-19.05 r0.8
  circle w0: c8.29,-18.45 r0.2
  circle w0: c8.29,-19.65 r0.2
  circle w0: c-8.29,-18.45 r0.2
  circle w0: c-8.29,-19.65 r0.2
  circle w0: c-8.29,-19.65 r0.2
  circle w0: c-8.29,-18.45 r0.2
  circle w0: c-10.49,-19.05 r0.8
  circle w0: c-8.29,-5.75 r0.2
  circle w0: c-8.29,-6.95 r0.2
  circle w0: c-8.29,-6.95 r0.2
  circle w0: c-8.29,-5.75 r0.2
  circle w0: c-10.49,-6.35 r0.8
  circle w0: c-8.29,6.95 r0.2
  circle w0: c-8.29,5.75 r0.2
  circle w0: c-8.29,5.75 r0.2
  circle w0: c-8.29,6.95 r0.2
  circle w0: c-10.49,6.35 r0.8
  circle w0: c-8.29,19.65 r0.2
  circle w0: c-8.29,18.45 r0.2
  circle w0: c-8.29,18.45 r0.2
  circle w0: c-8.29,19.65 r0.2
  circle w0: c-10.49,19.05 r0.8
  circle w0: c-11.09,23.53 r0.2
  circle w0: c-11.09,24.73 r0.2
  circle w0: c-8.89,24.13 r0.8
  region: 10.49,18.25 8.29,18.25 8.09,18.45 8.09,19.65 8.29,19.85 10.49,19.85
  region: 8.89,18.25 8.29,18.25 8.09,18.45 8.09,19.65 8.29,19.85 8.89,19.85
  region: 10.49,5.55 8.29,5.55 8.09,5.75 8.09,6.95 8.29,7.15 10.49,7.15
  region: 8.89,5.55 8.29,5.55 8.09,5.75 8.09,6.95 8.29,7.15 8.89,7.15
  region: 10.49,-7.15 8.29,-7.15 8.09,-6.95 8.09,-5.75 8.29,-5.55 10.49,-5.55
  region: 8.89,-7.15 8.29,-7.15 8.09,-6.95 8.09,-5.75 8.29,-5.55 8.89,-5.55
  region: 10.49,-19.85 8.29,-19.85 8.09,-19.65 8.09,-18.45 8.29,-18.25 10.49,-18.25
  region: 8.89,-19.85 8.29,-19.85 8.09,-19.65 8.09,-18.45 8.29,-18.25 8.89,-18.25
  region: -8.09,-18.45 -8.09,-19.65 -8.29,-19.85 -8.89,-19.85 -8.89,-18.25 -8.29,-18.25
  region: -8.09,-18.45 -8.09,-19.65 -8.29,-19.85 -10.49,-19.85 -10.49,-18.25 -8.29,-18.25
  region: -8.09,-5.75 -8.09,-6.95 -8.29,-7.15 -8.89,-7.15 -8.89,-5.55 -8.29,-5.55
  region: -8.09,-5.75 -8.09,-6.95 -8.29,-7.15 -10.49,-7.15 -10.49,-5.55 -8.29,-5.55
  region: -8.09,6.95 -8.09,5.75 -8.29,5.55 -8.89,5.55 -8.89,7.15 -8.29,7.15
  region: -8.09,6.95 -8.09,5.75 -8.29,5.55 -10.49,5.55 -10.49,7.15 -8.29,7.15
  region: -8.09,19.65 -8.09,18.45 -8.29,18.25 -8.89,18.25 -8.89,19.85 -8.29,19.85
  region: -8.09,19.65 -8.09,18.45 -8.29,18.25 -10.49,18.25 -10.49,19.85 -8.29,19.85
  region: -8.89,23.33 -11.09,23.33 -11.29,23.53 -11.29,24.73 -11.09,24.93 -8.89,24.93
B.Mask:
  circle w0: c8.29,19.65 r0.2
  circle w0: c8.29,18.45 r0.2
  circle w0: c8.29,6.95 r0.2
  circle w0: c8.29,5.75 r0.2
  circle w0: c8.29,-5.75 r0.2
  circle w0: c8.29,-6.95 r0.2
  circle w0: c8.29,-18.45 r0.2
  circle w0: c8.29,-19.65 r0.2
  circle w0: c-8.29,-18.45 r0.2
  circle w0: c-8.29,-19.65 r0.2
  circle w0: c-8.29,-5.75 r0.2
  circle w0: c-8.29,-6.95 r0.2
  circle w0: c-8.29,6.95 r0.2
  circle w0: c-8.29,5.75 r0.2
  circle w0: c-8.29,19.65 r0.2
  circle w0: c-8.29,18.45 r0.2
  region: 8.89,18.25 8.29,18.25 8.09,18.45 8.09,19.65 8.29,19.85 8.89,19.85
  region: 8.89,5.55 8.29,5.55 8.09,5.75 8.09,6.95 8.29,7.15 8.89,7.15
  region: 8.89,-7.15 8.29,-7.15 8.09,-6.95 8.09,-5.75 8.29,-5.55 8.89,-5.55
  region: 8.89,-19.85 8.29,-19.85 8.09,-19.65 8.09,-18.45 8.29,-18.25 8.89,-18.25
  region: -8.09,-18.45 -8.09,-19.65 -8.29,-19.85 -8.89,-19.85 -8.89,-18.25 -8.29,-18.25
  region: -8.09,-5.75 -8.09,-6.95 -8.29,-7.15 -8.89,-7.15 -8.89,-5.55 -8.29,-5.55
  region: -8.09,6.95 -8.09,5.75 -8.29,5.55 -8.89,5.55 -8.89,7.15 -8.29,7.15
  region: -8.09,19.65 -8.09,18.45 -8.29,18.25 -8.89,18.25 -8.89,19.85 -8.29,19.85
Top Assembly:
  region: 4,26.2 3.79,26.2 3.79,21.2 -3.79,21.2 -3.79,26.2 -4,26.2 -4,26.8 4,26.8
  lines w0.254: -10.5,-25 ccw(c-10,-25) -10,-25.5 10,-25.5 ccw(c10,-25) 10.5,-25 10.5,25 ccw(c10,25) 10,25.5 -9.5,25.5 -10.5,24.5 -10.5,-25 ; -6.5,20.3 -4.9,20.3 -4.9,21.1 -6.5,21.1 -6.5,20.3 ; -6.2,20.3 -5.2,20.3 -5.2,21.1 -6.2,21.1 -6.2,20.3 ; -5.1,11.375 -1.9,11.375 -1.9,15.625 -5.1,15.625 -5.1,11.375 ; -4.625,12.925 ccw(c-3.5,12.925) -2.375,12.925 -2.375,14.075 ccw(c-3.5,14.075) -4.625,14.075 -4.625,12.925
  text "'.Designator'" at 0.84,-4.047 h1
Top Courtyard:
  region: 4.5,25.75 11.54,25.75 11.54,-26.55 -11.54,-26.55 -11.54,25.75 -4.5,25.75 -4.5,27.3 4.5,27.3
Top Designator:
  text ".Designator" at -7.618,5.835 h1.52
Dwgs.User:
  circle w0.254: c5.7,-23.5 r1.05
  circle w0.254: c5.7,23.5 r1.05
  circle w0.254: c-5.7,-23.5 r1.05
  circle w0.254: c-5.7,23.5 r1.05
  region: 10.5,0.47 2.12,0.47 1.9,0.7 1.9,1.6 2.37,2.07 5.65,2.07 5.9,2.3 5.9,3.2 5.2,3.9 4.55,3.9 4.3,4.15 4.3,11.05 4.85,11.6 7.15,11.6 7.78,12.23 10.5,12.23
Cmts.User:
  text "Copper" at -0.812,23.71 h0.33
  text "Exposed" at -0.922,24.345 h0.33
  text "Exposed Copper Keep Out" at 0.087,-5.972 h0.33
  text "Exposed Copper Keep Out" at -2.228,11.213 h0.33
  text "Possible Antenna" at -5.83,-20.359 h1
  text "Keep" at -0.555,21.045 h0.33
  text "AGND Plane" at 5.405,5.582 h0.5
  text "Exposed Copper Keep Out" at -3.037,-25.037 h0.33
  text "Keep Out" at -3.247,-22.407 h1
  text "USB Cable" at -3.604,38.085 h1
  text "Out" at 0.59,4.148 h0.33
  text "Copper" at 0.188,5.363 h0.33
  text "Out" at -0.41,20.466 h0.33
  text "Keep Out" at -3.247,35.378 h1
  text "Keep" at 0.445,4.728 h0.33

## RaspberryPi_Pico_SMD [mm]
pads (96):
  rect 1.6x0.8 smd: 1(-9.69,24.13) 3(-9.69,19.05) 8(-9.69,6.35) 13(-9.69,-6.35) 18(-9.69,-19.05) 23(9.69,-19.05) 28(9.69,-6.35) 33(9.69,6.35) 38(9.69,19.05)
  rrect50% 3.2x1.6 smd: 2(-9.69,21.59) 4(-9.69,16.51) 5(-9.69,13.97) 6(-9.69,11.43) 7(-9.69,8.89) 9(-9.69,3.81) 10(-9.69,1.27) 11(-9.69,-1.27) 12(-9.69,-3.81) 14(-9.69,-8.89) 15(-9.69,-11.43) 16(-9.69,-13.97) 17(-9.69,-16.51) 19(-9.69,-21.59) 20(-9.69,-24.13) 21(9.69,-24.13) 22(9.69,-21.59) 24(9.69,-16.51) 25(9.69,-13.97) 26(9.69,-11.43) 27(9.69,-8.89) 29(9.69,-3.81) 30(9.69,-1.27) 31(9.69,1.27) 32(9.69,3.81) 34(9.69,8.89) 35(9.69,11.43) 36(9.69,13.97) 37(9.69,16.51) 39(9.69,21.59) 40(9.69,24.13)
  rrect50% 1.6x3.2 smd: D1(-2.54,-24.7) D3(2.54,-24.7)
  round 1.6 smd: D2(0,-23.9)
  rrect20% 1.5x1.5 smd: TP1(0,21) TP2(1,24.3) TP3(-1,24.3) TP4(-2.5,17.5) TP5(-2.5,15) TP6(-2.5,12.5)
  rect 3.8x2.2 on Top Paste: Un1(-9.69,24.13) Un2(-9.69,21.59) Un3(-9.69,19.05) Un4(-9.69,16.51) Un5(-9.69,13.97) Un6(-9.69,11.43) Un7(-9.69,8.89) Un8(-9.69,6.35) Un9(-9.69,3.81) Un10(-9.69,1.27) Un11(-9.69,-1.27) Un12(-9.69,-3.81) Un13(-9.69,-6.35) Un14(-9.69,-8.89) Un15(-9.69,-11.43) Un16(-9.69,-13.97) Un17(-9.69,-16.51) Un18(-9.69,-19.05) Un19(-9.69,-21.59) Un20(-9.69,-24.13) Un28(9.69,24.13) Un29(9.69,21.59) Un30(9.69,19.05) Un31(9.69,16.51) Un32(9.69,13.97) Un33(9.69,11.43) Un34(9.69,8.89) Un35(9.69,6.35) Un36(9.69,3.81) Un37(9.69,1.27) Un38(9.69,-1.27) Un39(9.69,-3.81) Un40(9.69,-6.35) Un41(9.69,-8.89) Un42(9.69,-11.43) Un43(9.69,-13.97) Un44(9.69,-16.51) Un45(9.69,-19.05) Un46(9.69,-21.59) Un47(9.69,-24.13)
  rrect100% 1.1x1.8 smd: Un21(-2.725,24) Un27(2.725,24)
  rect 2.2x3.8 on Top Paste: Un22(-2.54,-24.7) Un24(0,-24.7) Un26(2.54,-24.7)
  rrect100% 1.05x1.45 smd: Un23(-2.425,20.97) Un25(2.425,20.97)
F.Cu:
  circle w0: c0,-25.5 r0.8
  circle w0: c0.6,-23.3 r0.2
  circle w0: c-0.6,-23.3 r0.2
  circle w0: c8.29,18.45 r0.2
  circle w0: c8.29,19.65 r0.2
  circle w0: c10.49,19.05 r0.8
  circle w0: c8.29,5.75 r0.2
  circle w0: c8.29,6.95 r0.2
  circle w0: c10.49,6.35 r0.8
  circle w0: c8.29,-6.95 r0.2
  circle w0: c8.29,-5.75 r0.2
  circle w0: c10.49,-6.35 r0.8
  circle w0: c8.29,-19.65 r0.2
  circle w0: c8.29,-18.45 r0.2
  circle w0: c10.49,-19.05 r0.8
  circle w0: c-8.29,-19.65 r0.2
  circle w0: c-8.29,-18.45 r0.2
  circle w0: c-10.49,-19.05 r0.8
  circle w0: c-8.29,-6.95 r0.2
  circle w0: c-8.29,-5.75 r0.2
  circle w0: c-10.49,-6.35 r0.8
  circle w0: c-8.29,5.75 r0.2
  circle w0: c-8.29,6.95 r0.2
  circle w0: c-10.49,6.35 r0.8
  circle w0: c-8.29,18.45 r0.2
  circle w0: c-8.29,19.65 r0.2
  circle w0: c-10.49,19.05 r0.8
  circle w0: c-11.09,23.53 r0.2
  circle w0: c-11.09,24.73 r0.2
  circle w0: c-8.89,24.13 r0.8
  region: 0.8,-23.3 0.8,-25.5 -0.8,-25.5 -0.8,-23.3 -0.6,-23.1 0.6,-23.1
  region: 10.49,18.25 8.29,18.25 8.09,18.45 8.09,19.65 8.29,19.85 10.49,19.85
  region: 10.49,5.55 8.29,5.55 8.09,5.75 8.09,6.95 8.29,7.15 10.49,7.15
  region: 10.49,-7.15 8.29,-7.15 8.09,-6.95 8.09,-5.75 8.29,-5.55 10.49,-5.55
  region: 10.49,-19.85 8.29,-19.85 8.09,-19.65 8.09,-18.45 8.29,-18.25 10.49,-18.25
  region: -8.09,-18.45 -8.09,-19.65 -8.29,-19.85 -10.49,-19.85 -10.49,-18.25 -8.29,-18.25
  region: -8.09,-5.75 -8.09,-6.95 -8.29,-7.15 -10.49,-7.15 -10.49,-5.55 -8.29,-5.55
  region: -8.09,6.95 -8.09,5.75 -8.29,5.55 -10.49,5.55 -10.49,7.15 -8.29,7.15
  region: -8.09,19.65 -8.09,18.45 -8.29,18.25 -10.49,18.25 -10.49,19.85 -8.29,19.85
  region: -8.89,23.33 -11.09,23.33 -11.29,23.53 -11.29,24.73 -11.09,24.93 -8.89,24.93
F.SilkS:
  lines w0.254: -11.09,23.07 -10.61,23.07 -10.61,22.65 ; -11.09,25.19 -10.58,25.19 cw(c-10,25) -10,25.61 -7.51,25.61 -6.162,25.61 ; -10.61,-23.07 -10.61,-22.65 ; -10.61,-20.53 -10.61,-20.11 ; -10.61,-17.99 -10.61,-17.57 ; -10.61,-15.45 -10.61,-15.03 ; -10.61,-12.91 -10.61,-12.49 ; -10.61,-10.37 -10.61,-9.95 ; -10.61,-7.83 -10.61,-7.41 ; -10.61,-5.29 -10.61,-4.87 ; -10.61,-2.75 -10.61,-2.33 ; -10.61,-0.21 -10.61,0.21 ; -10.61,2.33 -10.61,2.75 ; -10.61,4.87 -10.61,5.29 ; -10.61,7.41 -10.61,7.83 ; -10.61,9.95 -10.61,10.37 ; -10.61,12.49 -10.61,12.91 ; -10.61,15.03 -10.61,15.45 ; -10.61,17.57 -10.61,17.99 ; -10.61,20.11 -10.61,20.53 ; -10.58,-25.19 ccw(c-10,-25) -10,-25.61 -6.162,-25.61 ; -5.238,-25.61 -3.6,-25.61 ; -5.238,25.61 -4.235,25.61 4.235,25.61 5.238,25.61 ; -1.48,-25.61 -1.06,-25.61 ; 1.06,-25.61 1.48,-25.61 ; 3.6,-25.61 5.238,-25.61 ; 6.162,-25.61 10,-25.61 ccw(c10,-25) 10.58,-25.19 ; 6.162,25.61 7.51,25.61 10,25.61 cw(c10,25) 10.58,25.19 ; 10.61,-23.07 10.61,-22.65 ; 10.61,-20.53 10.61,-20.11 ; 10.61,-17.99 10.61,-17.57 ; 10.61,-15.45 10.61,-15.03 ; 10.61,-12.91 10.61,-12.49 ; 10.61,-10.37 10.61,-9.95 ; 10.61,-7.83 10.61,-7.41 ; 10.61,-5.29 10.61,-4.87 ; 10.61,-2.75 10.61,-2.33 ; 10.61,-0.21 10.61,0.21 ; 10.61,2.33 10.61,2.75 ; 10.61,4.87 10.61,5.29 ; 10.61,7.41 10.61,7.83 ; 10.61,9.95 10.61,10.37 ; 10.61,12.49 10.61,12.91 ; 10.61,15.03 10.61,15.45 ; 10.61,17.57 10.61,17.99 ; 10.61,20.11 10.61,20.53 ; 10.61,22.65 10.61,23.07
F.Mask:
  circle w0: c0,-25.5 r0.8
  circle w0: c0.6,-23.3 r0.2
  circle w0: c-0.6,-23.3 r0.2
  circle w0: c8.29,18.45 r0.2
  circle w0: c8.29,19.65 r0.2
  circle w0: c10.49,19.05 r0.8
  circle w0: c8.29,5.75 r0.2
  circle w0: c8.29,6.95 r0.2
  circle w0: c10.49,6.35 r0.8
  circle w0: c8.29,-6.95 r0.2
  circle w0: c8.29,-5.75 r0.2
  circle w0: c10.49,-6.35 r0.8
  circle w0: c8.29,-19.65 r0.2
  circle w0: c8.29,-18.45 r0.2
  circle w0: c10.49,-19.05 r0.8
  circle w0: c-8.29,-19.65 r0.2
  circle w0: c-8.29,-18.45 r0.2
  circle w0: c-10.49,-19.05 r0.8
  circle w0: c-8.29,-6.95 r0.2
  circle w0: c-8.29,-5.75 r0.2
  circle w0: c-10.49,-6.35 r0.8
  circle w0: c-8.29,5.75 r0.2
  circle w0: c-8.29,6.95 r0.2
  circle w0: c-10.49,6.35 r0.8
  circle w0: c-8.29,18.45 r0.2
  circle w0: c-8.29,19.65 r0.2
  circle w0: c-10.49,19.05 r0.8
  circle w0: c-11.09,23.53 r0.2
  circle w0: c-11.09,24.73 r0.2
  circle w0: c-8.89,24.13 r0.8
  region: 0.8,-23.3 0.8,-25.5 -0.8,-25.5 -0.8,-23.3 -0.6,-23.1 0.6,-23.1
  region: 10.49,18.25 8.29,18.25 8.09,18.45 8.09,19.65 8.29,19.85 10.49,19.85
  region: 10.49,5.55 8.29,5.55 8.09,5.75 8.09,6.95 8.29,7.15 10.49,7.15
  region: 10.49,-7.15 8.29,-7.15 8.09,-6.95 8.09,-5.75 8.29,-5.55 10.49,-5.55
  region: 10.49,-19.85 8.29,-19.85 8.09,-19.65 8.09,-18.45 8.29,-18.25 10.49,-18.25
  region: -8.09,-18.45 -8.09,-19.65 -8.29,-19.85 -10.49,-19.85 -10.49,-18.25 -8.29,-18.25
  region: -8.09,-5.75 -8.09,-6.95 -8.29,-7.15 -10.49,-7.15 -10.49,-5.55 -8.29,-5.55
  region: -8.09,6.95 -8.09,5.75 -8.29,5.55 -10.49,5.55 -10.49,7.15 -8.29,7.15
  region: -8.09,19.65 -8.09,18.45 -8.29,18.25 -10.49,18.25 -10.49,19.85 -8.29,19.85
  region: -8.89,23.33 -11.09,23.33 -11.29,23.53 -11.29,24.73 -11.09,24.93 -8.89,24.93
Top Assembly:
  region: 4,26.2 3.79,26.2 3.79,21.2 -3.79,21.2 -3.79,26.2 -4,26.2 -4,26.8 4,26.8
  lines w0.254: -10.5,-25 ccw(c-10,-25) -10,-25.5 10,-25.5 ccw(c10,-25) 10.5,-25 10.5,25 ccw(c10,25) 10,25.5 -9.5,25.5 -10.5,24.5 -10.5,-25 ; -6.5,20.3 -4.9,20.3 -4.9,21.1 -6.5,21.1 -6.5,20.3 ; -6.2,20.3 -5.2,20.3 -5.2,21.1 -6.2,21.1 -6.2,20.3 ; -5.1,11.375 -1.9,11.375 -1.9,15.625 -5.1,15.625 -5.1,11.375 ; -4.625,12.925 ccw(c-3.5,12.925) -2.375,12.925 -2.375,14.075 ccw(c-3.5,14.075) -4.625,14.075 -4.625,12.925
  text "'.Designator'" at 0.84,-4.047 h1
Top Courtyard:
  region: 4.5,25.75 11.54,25.75 11.54,-26.55 -11.54,-26.55 -11.54,25.75 -4.5,25.75 -4.5,27.3 4.5,27.3
Top Designator:
  text ".Designator" at -7.618,-0.158 h1.52
Dwgs.User:
  circle w0.254: c5.7,-23.5 r1.05
  circle w0.254: c5.7,23.5 r1.05
  circle w0.254: c-5.7,-23.5 r1.05
  circle w0.254: c-5.7,23.5 r1.05
  region: 10.5,0.47 2.12,0.47 1.9,0.7 1.9,1.6 2.37,2.07 5.65,2.07 5.9,2.3 5.9,3.2 5.2,3.9 4.55,3.9 4.3,4.15 4.3,11.05 4.85,11.6 7.15,11.6 7.78,12.23 10.5,12.23
Cmts.User:
  text "Out" at 0.59,4.148 h0.33
  text "Keep" at 0.445,4.728 h0.33
  text "Copper" at 0.188,5.363 h0.33
  text "AGND Plane" at 5.405,5.582 h0.5

## RaspberryPi_Pico_SMD_HandSolder [mm]
pads (90):
  rect 1.6x0.8 smd: 1(-9.69,24.13) 3(-9.69,19.05) 8(-9.69,6.35) 13(-9.69,-6.35) 18(-9.69,-19.05) 23(9.69,-19.05) 28(9.69,-6.35) 33(9.69,6.35) 38(9.69,19.05)
  rrect50% 3.2x1.6 smd: 2(-9.69,21.59) 4(-9.69,16.51) 5(-9.69,13.97) 6(-9.69,11.43) 7(-9.69,8.89) 9(-9.69,3.81) 10(-9.69,1.27) 11(-9.69,-1.27) 12(-9.69,-3.81) 14(-9.69,-8.89) 15(-9.69,-11.43) 16(-9.69,-13.97) 17(-9.69,-16.51) 19(-9.69,-21.59) 20(-9.69,-24.13) 21(9.69,-24.13) 22(9.69,-21.59) 24(9.69,-16.51) 25(9.69,-13.97) 26(9.69,-11.43) 27(9.69,-8.89) 29(9.69,-3.81) 30(9.69,-1.27) 31(9.69,1.27) 32(9.69,3.81) 34(9.69,8.89) 35(9.69,11.43) 36(9.69,13.97) 37(9.69,16.51) 39(9.69,21.59) 40(9.69,24.13)
  rrect50% 1.6x3.2 smd: D1(-2.54,-24.7) D3(2.54,-24.7)
  round 1.6 smd: D2(0,-23.9)
  rect 3.8x2.2 on Top Paste: Un1(-9.69,24.13) Un2(-9.69,21.59) Un3(-9.69,19.05) Un4(-9.69,16.51) Un5(-9.69,13.97) Un6(-9.69,11.43) Un7(-9.69,8.89) Un8(-9.69,6.35) Un9(-9.69,3.81) Un10(-9.69,1.27) Un11(-9.69,-1.27) Un12(-9.69,-3.81) Un13(-9.69,-6.35) Un14(-9.69,-8.89) Un15(-9.69,-11.43) Un16(-9.69,-13.97) Un17(-9.69,-16.51) Un18(-9.69,-19.05) Un19(-9.69,-21.59) Un20(-9.69,-24.13) Un28(9.69,24.13) Un29(9.69,21.59) Un30(9.69,19.05) Un31(9.69,16.51) Un32(9.69,13.97) Un33(9.69,11.43) Un34(9.69,8.89) Un35(9.69,6.35) Un36(9.69,3.81) Un37(9.69,1.27) Un38(9.69,-1.27) Un39(9.69,-3.81) Un40(9.69,-6.35) Un41(9.69,-8.89) Un42(9.69,-11.43) Un43(9.69,-13.97) Un44(9.69,-16.51) Un45(9.69,-19.05) Un46(9.69,-21.59) Un47(9.69,-24.13)
  round 2.2 hole 2.2: Un21(-2.725,24) Un27(2.725,24)
  rect 2.2x3.8 on Top Paste: Un22(-2.54,-24.7) Un24(0,-24.7) Un26(2.54,-24.7)
  round 1.85 hole 1.85: Un23(-2.425,20.97) Un25(2.425,20.97)
F.Cu:
  circle w0: c0,-25.5 r0.8
  circle w0: c0.6,-23.3 r0.2
  circle w0: c-0.6,-23.3 r0.2
  circle w0: c8.29,18.45 r0.2
  circle w0: c8.29,19.65 r0.2
  circle w0: c10.49,19.05 r0.8
  circle w0: c8.29,5.75 r0.2
  circle w0: c8.29,6.95 r0.2
  circle w0: c10.49,6.35 r0.8
  circle w0: c8.29,-6.95 r0.2
  circle w0: c8.29,-5.75 r0.2
  circle w0: c10.49,-6.35 r0.8
  circle w0: c8.29,-19.65 r0.2
  circle w0: c8.29,-18.45 r0.2
  circle w0: c10.49,-19.05 r0.8
  circle w0: c-8.29,-19.65 r0.2
  circle w0: c-8.29,-18.45 r0.2
  circle w0: c-10.49,-19.05 r0.8
  circle w0: c-8.29,-6.95 r0.2
  circle w0: c-8.29,-5.75 r0.2
  circle w0: c-10.49,-6.35 r0.8
  circle w0: c-8.29,5.75 r0.2
  circle w0: c-8.29,6.95 r0.2
  circle w0: c-10.49,6.35 r0.8
  circle w0: c-8.29,18.45 r0.2
  circle w0: c-8.29,19.65 r0.2
  circle w0: c-10.49,19.05 r0.8
  circle w0: c-11.09,23.53 r0.2
  circle w0: c-11.09,24.73 r0.2
  circle w0: c-8.89,24.13 r0.8
  region: 0.8,-23.3 0.8,-25.5 -0.8,-25.5 -0.8,-23.3 -0.6,-23.1 0.6,-23.1
  region: 10.49,18.25 8.29,18.25 8.09,18.45 8.09,19.65 8.29,19.85 10.49,19.85
  region: 10.49,5.55 8.29,5.55 8.09,5.75 8.09,6.95 8.29,7.15 10.49,7.15
  region: 10.49,-7.15 8.29,-7.15 8.09,-6.95 8.09,-5.75 8.29,-5.55 10.49,-5.55
  region: 10.49,-19.85 8.29,-19.85 8.09,-19.65 8.09,-18.45 8.29,-18.25 10.49,-18.25
  region: -8.09,-18.45 -8.09,-19.65 -8.29,-19.85 -10.49,-19.85 -10.49,-18.25 -8.29,-18.25
  region: -8.09,-5.75 -8.09,-6.95 -8.29,-7.15 -10.49,-7.15 -10.49,-5.55 -8.29,-5.55
  region: -8.09,6.95 -8.09,5.75 -8.29,5.55 -10.49,5.55 -10.49,7.15 -8.29,7.15
  region: -8.09,19.65 -8.09,18.45 -8.29,18.25 -10.49,18.25 -10.49,19.85 -8.29,19.85
  region: -8.89,23.33 -11.09,23.33 -11.29,23.53 -11.29,24.73 -11.09,24.93 -8.89,24.93
F.SilkS:
  lines w0.254: -11.09,23.07 -10.61,23.07 -10.61,22.65 ; -11.09,25.19 -10.58,25.19 cw(c-10,25) -10,25.61 -7.51,25.61 -6.162,25.61 ; -10.61,-23.07 -10.61,-22.65 ; -10.61,-20.53 -10.61,-20.11 ; -10.61,-17.99 -10.61,-17.57 ; -10.61,-15.45 -10.61,-15.03 ; -10.61,-12.91 -10.61,-12.49 ; -10.61,-10.37 -10.61,-9.95 ; -10.61,-7.83 -10.61,-7.41 ; -10.61,-5.29 -10.61,-4.87 ; -10.61,-2.75 -10.61,-2.33 ; -10.61,-0.21 -10.61,0.21 ; -10.61,2.33 -10.61,2.75 ; -10.61,4.87 -10.61,5.29 ; -10.61,7.41 -10.61,7.83 ; -10.61,9.95 -10.61,10.37 ; -10.61,12.49 -10.61,12.91 ; -10.61,15.03 -10.61,15.45 ; -10.61,17.57 -10.61,17.99 ; -10.61,20.11 -10.61,20.53 ; -10.58,-25.19 ccw(c-10,-25) -10,-25.61 -6.162,-25.61 ; -5.238,-25.61 -3.6,-25.61 ; -5.238,25.61 -4.235,25.61 4.235,25.61 5.238,25.61 ; -3.9,22.306 -3.9,21.09 -3.604,21.09 ; -3.9,24.694 -3.9,25.61 ; -1.48,-25.61 -1.06,-25.61 ; -1.246,21.09 1.246,21.09 ; 1.06,-25.61 1.48,-25.61 ; 3.6,-25.61 5.238,-25.61 ; 3.604,21.09 3.9,21.09 3.9,22.306 ; 3.9,24.694 3.9,25.61 ; 6.162,-25.61 10,-25.61 ccw(c10,-25) 10.58,-25.19 ; 6.162,25.61 7.51,25.61 10,25.61 cw(c10,25) 10.58,25.19 ; 10.61,-23.07 10.61,-22.65 ; 10.61,-20.53 10.61,-20.11 ; 10.61,-17.99 10.61,-17.57 ; 10.61,-15.45 10.61,-15.03 ; 10.61,-12.91 10.61,-12.49 ; 10.61,-10.37 10.61,-9.95 ; 10.61,-7.83 10.61,-7.41 ; 10.61,-5.29 10.61,-4.87 ; 10.61,-2.75 10.61,-2.33 ; 10.61,-0.21 10.61,0.21 ; 10.61,2.33 10.61,2.75 ; 10.61,4.87 10.61,5.29 ; 10.61,7.41 10.61,7.83 ; 10.61,9.95 10.61,10.37 ; 10.61,12.49 10.61,12.91 ; 10.61,15.03 10.61,15.45 ; 10.61,17.57 10.61,17.99 ; 10.61,20.11 10.61,20.53 ; 10.61,22.65 10.61,23.07
F.Mask:
  circle w0: c0,-25.5 r0.8
  circle w0: c0.6,-23.3 r0.2
  circle w0: c-0.6,-23.3 r0.2
  circle w0: c8.29,18.45 r0.2
  circle w0: c8.29,19.65 r0.2
  circle w0: c10.49,19.05 r0.8
  circle w0: c8.29,5.75 r0.2
  circle w0: c8.29,6.95 r0.2
  circle w0: c10.49,6.35 r0.8
  circle w0: c8.29,-6.95 r0.2
  circle w0: c8.29,-5.75 r0.2
  circle w0: c10.49,-6.35 r0.8
  circle w0: c8.29,-19.65 r0.2
  circle w0: c8.29,-18.45 r0.2
  circle w0: c10.49,-19.05 r0.8
  circle w0: c-8.29,-19.65 r0.2
  circle w0: c-8.29,-18.45 r0.2
  circle w0: c-10.49,-19.05 r0.8
  circle w0: c-8.29,-6.95 r0.2
  circle w0: c-8.29,-5.75 r0.2
  circle w0: c-10.49,-6.35 r0.8
  circle w0: c-8.29,5.75 r0.2
  circle w0: c-8.29,6.95 r0.2
  circle w0: c-10.49,6.35 r0.8
  circle w0: c-8.29,18.45 r0.2
  circle w0: c-8.29,19.65 r0.2
  circle w0: c-10.49,19.05 r0.8
  circle w0: c-11.09,23.53 r0.2
  circle w0: c-11.09,24.73 r0.2
  circle w0: c-8.89,24.13 r0.8
  region: 0.8,-23.3 0.8,-25.5 -0.8,-25.5 -0.8,-23.3 -0.6,-23.1 0.6,-23.1
  region: 10.49,18.25 8.29,18.25 8.09,18.45 8.09,19.65 8.29,19.85 10.49,19.85
  region: 10.49,5.55 8.29,5.55 8.09,5.75 8.09,6.95 8.29,7.15 10.49,7.15
  region: 10.49,-7.15 8.29,-7.15 8.09,-6.95 8.09,-5.75 8.29,-5.55 10.49,-5.55
  region: 10.49,-19.85 8.29,-19.85 8.09,-19.65 8.09,-18.45 8.29,-18.25 10.49,-18.25
  region: -8.09,-18.45 -8.09,-19.65 -8.29,-19.85 -10.49,-19.85 -10.49,-18.25 -8.29,-18.25
  region: -8.09,-5.75 -8.09,-6.95 -8.29,-7.15 -10.49,-7.15 -10.49,-5.55 -8.29,-5.55
  region: -8.09,6.95 -8.09,5.75 -8.29,5.55 -10.49,5.55 -10.49,7.15 -8.29,7.15
  region: -8.09,19.65 -8.09,18.45 -8.29,18.25 -10.49,18.25 -10.49,19.85 -8.29,19.85
  region: -8.89,23.33 -11.09,23.33 -11.29,23.53 -11.29,24.73 -11.09,24.93 -8.89,24.93
Top Assembly:
  region: 4,26.2 3.79,26.2 3.79,21.2 -3.79,21.2 -3.79,26.2 -4,26.2 -4,26.8 4,26.8
  lines w0.254: -10.5,-25 ccw(c-10,-25) -10,-25.5 10,-25.5 ccw(c10,-25) 10.5,-25 10.5,25 ccw(c10,25) 10,25.5 -9.5,25.5 -10.5,24.5 -10.5,-25 ; -6.5,20.3 -4.9,20.3 -4.9,21.1 -6.5,21.1 -6.5,20.3 ; -6.2,20.3 -5.2,20.3 -5.2,21.1 -6.2,21.1 -6.2,20.3 ; -5.1,11.375 -1.9,11.375 -1.9,15.625 -5.1,15.625 -5.1,11.375 ; -4.625,12.925 ccw(c-3.5,12.925) -2.375,12.925 -2.375,14.075 ccw(c-3.5,14.075) -4.625,14.075 -4.625,12.925
  text "'.Designator'" at 0.84,-4.047 h1
Top Courtyard:
  region: 4.5,25.75 11.54,25.75 11.54,-26.55 -11.54,-26.55 -11.54,25.75 -4.5,25.75 -4.5,27.3 4.5,27.3
Top Designator:
  text ".Designator" at -7.618,5.81 h1.52
Dwgs.User:
  circle w0.254: c5.7,-23.5 r1.05
  circle w0.254: c5.7,23.5 r1.05
  circle w0.254: c-5.7,-23.5 r1.05
  circle w0.254: c-5.7,23.5 r1.05
  region: 10.5,0.47 2.12,0.47 1.9,0.7 1.9,1.6 2.37,2.07 5.65,2.07 5.9,2.3 5.9,3.2 5.2,3.9 4.55,3.9 4.3,4.15 4.3,11.05 4.85,11.6 7.15,11.6 7.78,12.23 10.5,12.23
Cmts.User:
  text "Keep" at 0.445,4.728 h0.33
  text "USB Cable" at -3.604,38.085 h1
  text "Keep Out" at -3.247,35.378 h1
  text "AGND Plane" at 5.405,5.582 h0.5
  text "Out" at 0.59,4.148 h0.33
  text "Exposed Copper Keep Out" at -2.228,11.213 h0.33
  text "Exposed" at -0.922,24.345 h0.33
  text "Keep" at -0.555,21.045 h0.33
  text "Copper" at 0.188,5.363 h0.33
  text "Copper" at -0.812,23.71 h0.33
  text "Out" at -0.41,20.466 h0.33